# Altium footprint library SST10FRB130J730.PcbLib: 1 footprints
Each footprint in its own frame and in the unit in brackets; x right, y up, seen from the top. Pads: shape width x height; smd on the part's side, far side on the other; paste and mask are expansions set on the pad; w line width, h text height; cw(c..) or ccw(c..) is an arc to the next point about the centre after c.
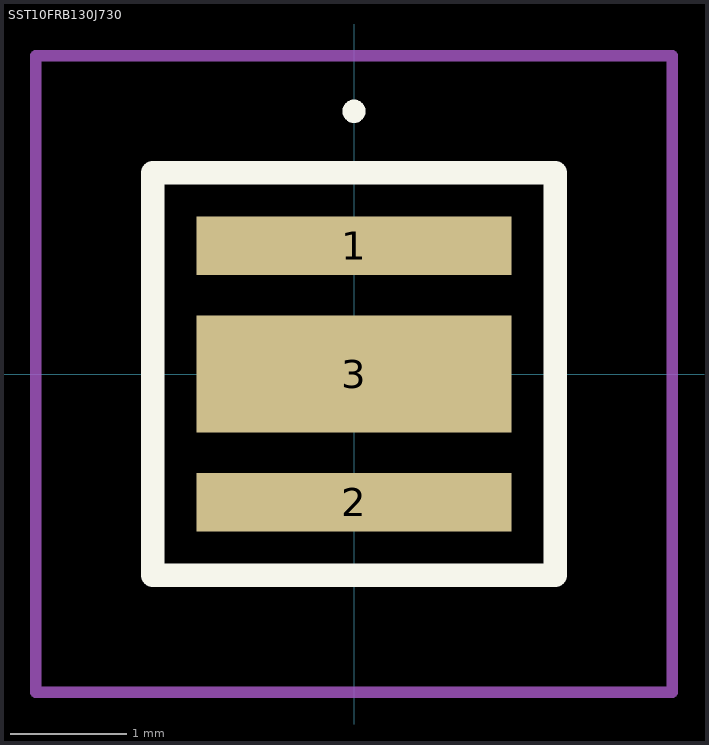
[diagram p0: the footprint, top view; thin cyan lines are the x and y axes]

## SST10FRB130J730 [mm]
pads (3):
  rect 2.7x0.5 smd: 1(0,1.1) 2(0,-1.1)
  rect 2.7x1 smd: 3(0,0)
Top Overlay:
  lines w0.1: 0,2.2 cw(c0,2.25) 0,2.3 ; 0,2.2 0,2.2 ; 0,2.2 ccw(c0,2.25) 0,2.3 ; 0,2.3 0,2.3
  lines w0.2: -1.725,-1.725 1.725,-1.725 1.725,1.725 -1.725,1.725 -1.725,-1.725
Mechanical 15:
  lines w0.1: -1.725,-1.725 1.725,-1.725 1.725,1.725 -1.725,1.725 -1.725,-1.725
Mechanical 20:
  lines w0.1: -2.725,-2.725 2.725,-2.725 2.725,2.725 -2.725,2.725 -2.725,-2.725